# Altium footprint library LCD_Screen_16x2.PcbLib: 1 footprints
Each footprint in its own frame and in the unit in brackets; x right, y up, seen from the top. Pads: shape width x height; smd on the part's side, far side on the other; paste and mask are expansions set on the pad; w line width, h text height; cw(c..) or ccw(c..) is an arc to the next point about the centre after c.
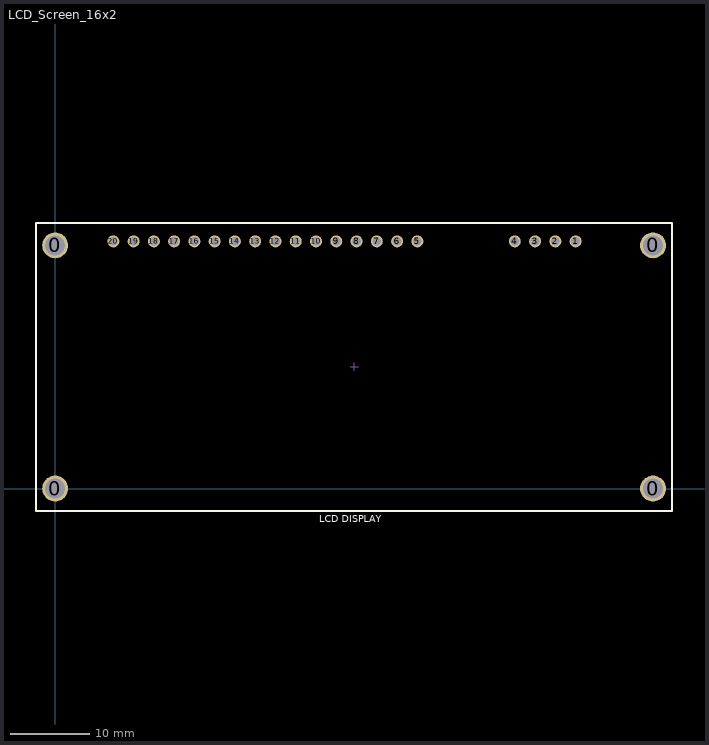
[diagram p0: the footprint, top view; thin cyan lines are the x and y axes]

## LCD_Screen_16x2 [mm] "SPARKFUN 16X2 SERLCD - RGB TEXT"
pads (24):
  round 3.251 hole 2.489: 0(0,0) 0(0,30.48) 0(74.93,0) 0(74.93,30.48)
  round 1.5 hole 1.1: 1(65.227,30.988) 2(62.687,30.988) 3(60.147,30.988) 4(57.607,30.988) 5(45.39,30.988) 6(42.85,30.988) 7(40.31,30.988) 8(37.77,30.988) 9(35.23,30.988) 10(32.69,30.988) 11(30.15,30.988) 12(27.61,30.988) 13(25.07,30.988) 14(22.53,30.988) 15(19.99,30.988) 16(17.45,30.988) 17(14.91,30.988) 18(12.37,30.988) 19(9.83,30.988) 20(7.29,30.988)
Top Overlay:
  lines w0.254: -2.426,-2.794 77.33,-2.794 77.33,33.274 -2.426,33.274 -2.426,-2.794
  text "LCD DISPLAY" at 33.092,-4.556 h1.52
Top Assembly:
  lines w0.05: -2.4,-2.794 77.33,-2.794 77.33,33.274 -2.4,33.274 -2.4,-2.794
  text ".designator" at 28.224,13.62 h3.81
Top Courtyard:
  lines w0.05: -2.4,-2.794 77.33,-2.794 77.33,33.274 -2.4,33.274 -2.4,-2.794
  lines w0.1: 36.965,15.24 37.965,15.24 ; 37.465,14.74 37.465,15.74
3D body "LCD Screen aug 30.STEP": height 4.44, standoff -5.59, extent -2.4,-2.794 77.33,33.274